# Altium schematic symbol library SMD-Symbols.SchLib: 42 symbols (part 2 of 3)
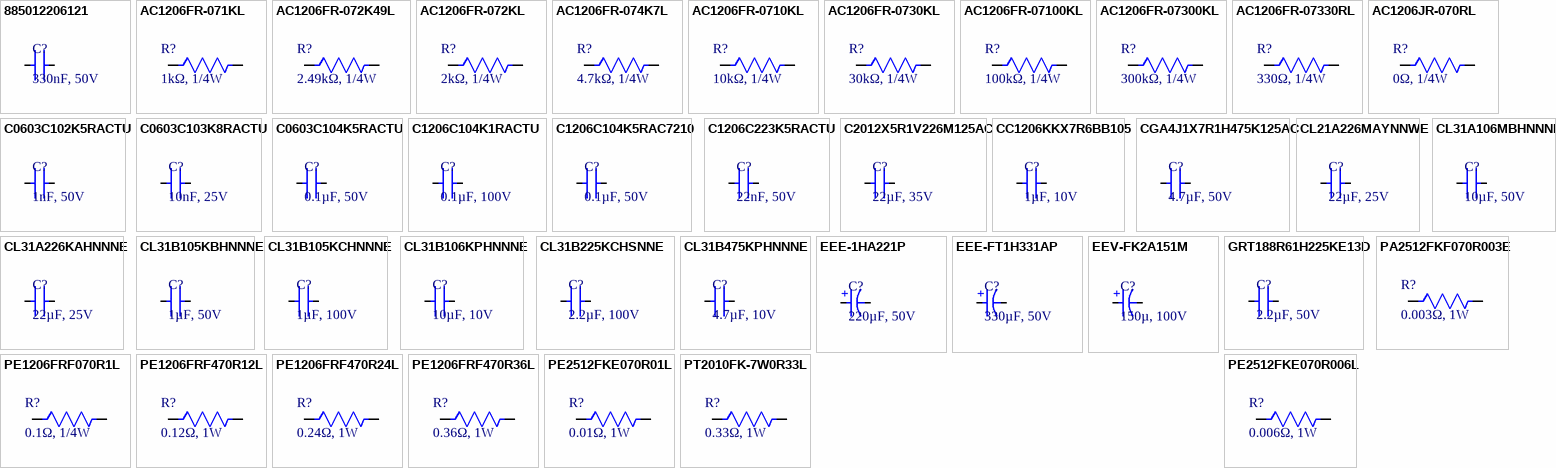
[diagram p2: symbols 885012206121 to PT2010FK-7W0R33L]

## C2012X5R1V226M125AC
designator C?, comment 22µF, 35V
CAP CER 22UF 35V X5R 0805; Manufacturer: TDK; Manufacturer Part Number: C2012X5R1V226M125AC; Manufacturer Lifecycle Status: PRODUCTION; Dielectric Material: Ceramic; Tolerance: 20%; Supplier: DigiKey; Supplier Part Number: 445-14428-1-ND; RoHS: Compliant; Category: Ceramic Capacitors; Stock: 581767; Pricing: 1=0.57, 10=0.348, 50=0.2628, 100=0.2364, 500=0.19204, 1000=0.17833 (USD); Value: 22µF; Case/Package: 0805; Case Code (Imperial): 0805; Case Code (Metric): 2012; China RoHS: Compliant; Dielectric: X5R; Height: 1.25mm; Lead Free: Lead Free; Length: 2mm; Lifecycle Status: Production; Material: Ceramic; Max Length: 2.2mm; Max Operating Temperature: 85°C; Max Width: 1.45mm; Min Length: 1.8mm; Min Operating Temperature: -55°C; Min Width: 1.05mm; Mounting Technology: Surface Mount; Number of Terminals: 2; REACH SVHC: Yes; Schedule B: 8532240020, 8532240020|8532240020|8532240020|8532240020|8532240020; Termination: SMD/SMT; Voltage Rating: 35V; Voltage Rating (DC): 35V; Weight: 5.499807mg; Width: 1.25mm; ComponentLink1URL: https://datasheet.octopart.com:443/C2012X5R1V226M125AC-TDK-datasheet-175423548.pdf?src-supplier=TME; ComponentLink1Description: https://datasheet.octopart.com:443/C2012X5R1V226M125AC-TDK-datasheet-175423548.pdf?src-supplier=TME; ComponentLink2URL: https://datasheet.octopart.com:443/C2012X5R1V226M125AC-TDK-datasheet-182135025.pdf?src-supplier=TME; ComponentLink2Description: https://datasheet.octopart.com:443/C2012X5R1V226M125AC-TDK-datasheet-182135025.pdf?src-supplier=TME; ComponentLink3URL: https://datasheet.octopart.com:443/C2012X5R1V226M125AC-TDK-datasheet-159617022.pdf?src-supplier=TME; ComponentLink3Description: https://datasheet.octopart.com:443/C2012X5R1V226M125AC-TDK-datasheet-159617022.pdf?src-supplier=TME; ComponentLink4URL: https://datasheet.octopart.com:443/C2012X5R1V226M125AC-TDK-datasheet-68298673.pdf?src-supplier=Upverter; ComponentLink4Description: https://datasheet.octopart.com:443/C2012X5R1V226M125AC-TDK-datasheet-68298673.pdf?src-supplier=Upverter; ComponentLink5URL: https://datasheet.octopart.com:443/C2012X5R1V226M125AC-TDK-datasheet-151546523.pdf?src-supplier=ODG+(Origin+Data+Global); ComponentLink5Description: https://datasheet.octopart.com:443/C2012X5R1V226M125AC-TDK-datasheet-151546523.pdf?src-supplier=ODG+(Origin+Data+Global); ComponentLink6URL: https://datasheet.octopart.com:443/C2012X5R1V226M125AC-TDK-datasheet-82475248.pdf?src-supplier=Newark; ComponentLink6Description: https://datasheet.octopart.com:443/C2012X5R1V226M125AC-TDK-datasheet-82475248.pdf?src-supplier=Newark; ComponentLink7URL: https://datasheet.octopart.com/C2012X5R1V226M125AC-TDK-datasheet-41194876.pdf; ComponentLink7Description: https://datasheet.octopart.com/C2012X5R1V226M125AC-TDK-datasheet-41194876.pdf; ComponentLink8URL: https://datasheet.octopart.com/C-Series-Ceramic-Chip-Capacitors-TDK-datasheet-family-84.pdf; ComponentLink8Description: https://datasheet.octopart.com/C-Series-Ceramic-Chip-Capacitors-TDK-datasheet-family-84.pdf; ComponentLink9URL: https://datasheet.octopart.com:443/C2012X5R1V226M125AC-TDK-datasheet-158983655.pdf?src-supplier=Farnell; ComponentLink9Description: https://datasheet.octopart.com:443/C2012X5R1V226M125AC-TDK-datasheet-158983655.pdf?src-supplier=Farnell; ComponentLink10URL: https://datasheet.octopart.com:443/C2012X5R1V226M125AC-TDK-datasheet-25352837.pdf?src-supplier=Future+Electronics; ComponentLink10Description: https://datasheet.octopart.com:443/C2012X5R1V226M125AC-TDK-datasheet-25352837.pdf?src-supplier=Future+Electronics; ComponentLink11URL: https://datasheet.octopart.com:443/C2012X5R1V226M125AC-TDK-datasheet-23766614.pdf?src-supplier=Future+Electronics; ComponentLink11Description: https://datasheet.octopart.com:443/C2012X5R1V226M125AC-TDK-datasheet-23766614.pdf?src-supplier=Future+Electronics; ComponentLink12URL: http://sigma.octopart.com:80/rohs_certificate/C-Series-Ceramic-Chip-Capacitors-TDK-family-108.pdf?src-supplier=Compliance+Statements; ComponentLink12Description: http://sigma.octopart.com:80/rohs_certificate/C-Series-Ceramic-Chip-Capacitors-TDK-family-108.pdf?src-supplier=Compliance+Statements
footprint CAP-CER-0805
pins: 1, 2

## CC1206KKX7R6BB105
designator C?, comment 1µF, 10V
CAP CER 1UF 10V X7R 1206; Manufacturer: Yageo; Manufacturer Part Number: CC1206KKX7R6BB105; Dielectric Material: Ceramic; Multilayer: Yes; Tolerance  (fill in as +-): 10%; Supplier: Digikey; Supplier Part Number: 311-1951-1-ND; RoHS: Yes; Category: Ceramic Capacitors; Stock: 19006; Pricing: 1=0.23, 10=0.151, 50=0.1064, 100=0.0858, 500=0.06378, 1000=0.05581 (USD); Mounting Technology: Surface Mount; Pins: 2; Package Shape: Rectangular; Case/Package: 1206; Terminal Finish: Nickel; Min Operating Temperature: -55°C; Max Operating Temperature: 125°C; JESD-609 Code: e3; Value: 1uF; Capacitor Type: Ceramic; Package Style: SMTMeter; Packaging: Tape and Reel; Tolerance (fill in as +-): 10%; Rated DC Voltage (URdc): 10V; Temperature Characteristics Code: X7R; Termination: Wraparound; Length: 3.2mm; Width: 1.6mm; Height: 1.15mm; Reach SVHC Compliant: Yes; RoHS Compliant: Yes; ComponentLink1URL: https://datasheet.ciiva.com:443/pdfs/VipMasterIC/IC/YAGO/YAGO-S-A0003557223/YAGO-S-A0003557223-1.pdf?src-supplier=IHS+Markit; ComponentLink1Description: https://datasheet.ciiva.com:443/pdfs/VipMasterIC/IC/YAGO/YAGO-S-A0003557223/YAGO-S-A0003557223-1.pdf?src-supplier=IHS+Markit; ComponentLink2URL: https://datasheet.ciiva.com/26863/getdatasheetpartid-408469-26863081.pdf?src-supplier=Verical; ComponentLink2Description: https://datasheet.ciiva.com/26863/getdatasheetpartid-408469-26863081.pdf?src-supplier=Verical; ComponentLink3URL: https://datasheet.ciiva.com/11466/upy-gphc-x7r-6-3v-to-50v-8-11466566.pdf?src-supplier=Avnet; ComponentLink3Description: https://datasheet.ciiva.com/11466/upy-gphc-x7r-6-3v-to-50v-8-11466566.pdf?src-supplier=Avnet
footprint CAP-CER-1206
pins: 1, 2

## CGA4J1X7R1H475K125AC
designator C?, comment 4.7µF, 50V
CAP CER 4.7UF 50V X7R 0805; Manufacturer: TDK; Manufacturer Part Number: CGA4J1X7R1H475K125AC; Supplier: Digikey; Supplier Part Number: 445-181404-1-ND; RoHS: Yes; Category: Ceramic Capacitors; Stock: 257949; Pricing: 1=0.53, 10=0.323, 100=0.2178, 1000=0.16333 (USD); ComponentLink1URL: https://datasheet.ciiva.com:443/pdfs/VipMasterIC/IC/TDKC/TDKC-S-A0008953915/TDKC-S-A0008953915-1.pdf?src-supplier=IHS+Markit; ComponentLink1Description: https://datasheet.ciiva.com:443/pdfs/VipMasterIC/IC/TDKC/TDKC-S-A0008953915/TDKC-S-A0008953915-1.pdf?src-supplier=IHS+Markit; ComponentLink2URL: https://product.tdk.com/info/en/catalog/datasheets/mlcc_automotive_general_en.pdf?src-supplier=Digikey; ComponentLink2Description: https://product.tdk.com/info/en/catalog/datasheets/mlcc_automotive_general_en.pdf?src-supplier=Digikey; ComponentLink3URL: https://product.tdk.com/info/en/catalog/datasheets/mlcc_automotive_general_en.pdf?ref_disty=digikey&src-supplier=Digikey; ComponentLink3Description: https://product.tdk.com/info/en/catalog/datasheets/mlcc_automotive_general_en.pdf?ref_disty=digikey&src-supplier=Digikey; ComponentLink4URL: https://datasheet.octopart.com/CGA4J1X7R1H475K125AC-TDK-datasheet-138890726.pdf?src-supplier=Future+Electronics; ComponentLink4Description: https://datasheet.octopart.com/CGA4J1X7R1H475K125AC-TDK-datasheet-138890726.pdf?src-supplier=Future+Electronics; ComponentLink5URL: https://datasheet.octopart.com/CGA4J1X7R1H475K125AC-TDK-datasheet-165583812.pdf?src-supplier=TME; ComponentLink5Description: https://datasheet.octopart.com/CGA4J1X7R1H475K125AC-TDK-datasheet-165583812.pdf?src-supplier=TME
footprint CAP-CER-0805
pins: 1, 2

## CL21A226MAYNNWE
designator C?, comment 22µF, 25V
CAP CER 22UF 25V X5R 0805; Manufacturer: Samsung Electro-Mechanics; Manufacturer Part Number: CL21A226MAYNNWE; Dielectric Material: Ceramic; Tolerance: 20%; Supplier: DigiKey; Supplier Part Number: 1276-CL21A226MAYNNWECT-ND; RoHS: Compliant; Category: Ceramic Capacitors; Stock: 11531; Pricing: 1=0.28, 10=0.166, 50=0.1204, 100=0.1065, 500=0.08304, 1000=0.07581 (USD); Value: 22µF; Height: 1.25mm; Length: 2mm; Lifecycle Status: Production; Max Operating Temperature: 85°C; Min Operating Temperature: -55°C; Mounting Technology: Surface Mount; Number of Terminals: 2; REACH SVHC: Yes; Voltage Rating (DC): 25V; Width: 1.25mm; ComponentLink1URL: https://datasheet.octopart.com:443/CL21A226MAYNNWE-Samsung-Electro-Mechanics-datasheet-163747747.pdf?src-supplier=Future+Electronics; ComponentLink1Description: https://datasheet.octopart.com:443/CL21A226MAYNNWE-Samsung-Electro-Mechanics-datasheet-163747747.pdf?src-supplier=Future+Electronics
footprint CAP-CER-0805
pins: 1, 2

## CL31A106MBHNNNE
designator C?, comment 10µF, 50V
CAP CER 10UF 50V X5R 1206; Manufacturer: Samsung; Manufacturer Part Number: CL31A106MBHNNNE; Dielectric Material: Ceramic; Multilayer: Yes; Tolerance  (fill in as +-): 20%; Supplier: Digikey; Supplier Part Number: 1276-6736-1-ND; RoHS: Yes; Category: Ceramic Capacitors; Mounting Technology: Surface Mount; Pins: 2; Package Shape: Rectangular; Case/Package: 1206; Terminal Finish: Nickel; Min Operating Temperature: -55°C; Max Operating Temperature: 85°C; JESD-609 Code: e3; Value: 10uF; Capacitor Type: Ceramic; Packaging: Tape and Reel; Tolerance (fill in as +-): 20%; Rated DC Voltage (URdc): 50V; Temperature Characteristics Code: X5R; Termination: Wraparound; Reach SVHC Compliant: Yes; RoHS Compliant: Yes; ComponentLink1URL: https://datasheet.ciiva.com:443/pdfs/VipMasterIC/IC/SEMS/SEMS-S-A0008524842/SEMS-S-A0008524608-1.pdf?src-supplier=IHS+Markit; ComponentLink1Description: https://datasheet.ciiva.com:443/pdfs/VipMasterIC/IC/SEMS/SEMS-S-A0008524842/SEMS-S-A0008524608-1.pdf?src-supplier=IHS+Markit; ComponentLink2URL: http://www.samsungsem.com/kr/support/product-search/mlcc/CL31A106MBHNNNE.jsp?src-supplier=Digikey; ComponentLink2Description: http://www.samsungsem.com/kr/support/product-search/mlcc/CL31A106MBHNNNE.jsp?src-supplier=Digikey; ComponentLink3URL: https://datasheet.octopart.com/CL31A106MBHNNNE-Samsung-Electro-Mechanics-datasheet-149066821.pdf?src-supplier=Future+Electronics; ComponentLink3Description: https://datasheet.octopart.com/CL31A106MBHNNNE-Samsung-Electro-Mechanics-datasheet-149066821.pdf?src-supplier=Future+Electronics
footprint CAP-CER-1206
pins: 1, 2

## CL31A226KAHNNNE
designator C?, comment 22µF, 25V
CAP CER 22UF 25V X5R 1206; Manufacturer: Samsung; Manufacturer Part Number: CL31A226KAHNNNE; Dielectric Material: Ceramic; Multilayer: Yes; Tolerance  (fill in as +-): 10%; Supplier: Digikey; Supplier Part Number: 1276-3047-1-ND; RoHS: Yes; Category: Ceramic Capacitors; Stock: 1049305; Pricing: 1=0.23, 10=0.093, 50=0.08, 100=0.0672, 500=0.0644, 1000=0.06218 (USD); Mounting Technology: Surface Mount; Pins: 2; Package Shape: Rectangular; Case/Package: 1206; Terminal Finish: Nickel; Min Operating Temperature: -55°C; Max Operating Temperature: 85°C; JESD-609 Code: e3; Value: 22uF; Capacitor Type: Ceramic; Package Style: SMTMeter; Packaging: Tape and Reel; Tolerance (fill in as +-): 10%; Rated DC Voltage (URdc): 25V; Temperature Characteristics Code: X5R; Termination: Wraparound; Length: 3.2mm; Width: 1.6mm; Height: 1.8mm; Reach SVHC Compliant: Yes; RoHS Compliant: Yes; ComponentLink1URL: https://datasheet.ciiva.com:443/pdfs/VipMasterIC/IC/SEMS/SEMS-S-A0008384515/SEMS-S-A0008873224-1.pdf?src-supplier=IHS+Markit; ComponentLink1Description: https://datasheet.ciiva.com:443/pdfs/VipMasterIC/IC/SEMS/SEMS-S-A0008384515/SEMS-S-A0008873224-1.pdf?src-supplier=IHS+Markit; ComponentLink2URL: https://datasheet.ciiva.com/25766/cl31a226kahnnne-25766608.pdf?src-supplier=Digikey; ComponentLink2Description: https://datasheet.ciiva.com/25766/cl31a226kahnnne-25766608.pdf?src-supplier=Digikey; ComponentLink3URL: https://datasheet.ciiva.com/16437/cl31a226kahnnne-16437213.pdf?src-supplier=Future+Electronics; ComponentLink3Description: https://datasheet.ciiva.com/16437/cl31a226kahnnne-16437213.pdf?src-supplier=Future+Electronics; ComponentLink4URL: https://datasheet.ciiva.com/26838/getdatasheetpartid-359658-26838860.pdf?src-supplier=Verical; ComponentLink4Description: https://datasheet.ciiva.com/26838/getdatasheetpartid-359658-26838860.pdf?src-supplier=Verical; ComponentLink5URL: https://datasheet.ciiva.com/29201/452249-da-01-en-vs-kondensator-1206-29201336.pdf?src-supplier=Conrad; ComponentLink5Description: https://datasheet.ciiva.com/29201/452249-da-01-en-vs-kondensator-1206-29201336.pdf?src-supplier=Conrad
footprint CAP-CER-1206
pins: 1, 2

## CL31B105KBHNNNE
designator C?, comment 1µF, 50V
CAP CER 1UF 50V X7R 1206; Manufacturer: Samsung; Manufacturer Part Number: CL31B105KBHNNNE; Dielectric Material: Ceramic; Multilayer: Yes; Tolerance  (fill in as +-): 10%; Supplier: Digikey; Supplier Part Number: 1276-1068-1-ND; RoHS: Yes; Category: Ceramic Capacitors; Stock: 87983; Pricing: 1=0.13, 10=0.074, 100=0.045, 1000=0.03005 (USD); Mounting Technology: Surface Mount; Pins: 2; Package Shape: Rectangular; Case/Package: 1206; Terminal Finish: Nickel; Min Operating Temperature: -55°C; Max Operating Temperature: 125°C; JESD-609 Code: e3; Value: 1uF; Capacitor Type: Ceramic; Package Style: SMTMeter; Packaging: Tape and Reel; Tolerance (fill in as +-): 10%; Rated DC Voltage (URdc): 50V; Temperature Characteristics Code: X7R; Termination: Wraparound; Length: 3.2mm; Width: 1.6mm; Height: 1.8mm; Reach SVHC Compliant: Yes; RoHS Compliant: Yes; ComponentLink1URL: https://datasheet.ciiva.com:443/pdfs/VipMasterIC/IC/SEMS/SEMS-S-A0008526420/SEMS-S-A0008525247-1.pdf?src-supplier=IHS+Markit; ComponentLink1Description: https://datasheet.ciiva.com:443/pdfs/VipMasterIC/IC/SEMS/SEMS-S-A0008526420/SEMS-S-A0008525247-1.pdf?src-supplier=IHS+Markit; ComponentLink2URL: https://datasheet.ciiva.com/25729/cl31b105kbhnnne-25729445.pdf?src-supplier=Digikey; ComponentLink2Description: https://datasheet.ciiva.com/25729/cl31b105kbhnnne-25729445.pdf?src-supplier=Digikey; ComponentLink3URL: https://datasheet.ciiva.com/16330/cl31b105kbhnnne-16330112.pdf?src-supplier=Future+Electronics; ComponentLink3Description: https://datasheet.ciiva.com/16330/cl31b105kbhnnne-16330112.pdf?src-supplier=Future+Electronics
footprint CAP-CER-1206
pins: 1, 2

## CL31B105KCHNNNE
designator C?, comment 1µF, 100V
CAP CER 1UF 100V X7R 1206; Manufacturer: Samsung; Manufacturer Part Number: CL31B105KCHNNNE; Dielectric Material: Ceramic; Multilayer: Yes; Tolerance  (fill in as +-): 10%; Supplier: Digikey; Supplier Part Number: 1276-1838-1-ND; RoHS: Yes; Category: Ceramic Capacitors; Stock: 385884; Pricing: 1=0.16, 10=0.091, 50=0.0634, 100=0.055, 500=0.04066, 1000=0.03621 (USD); Mounting Technology: Surface Mount; Pins: 2; Package Shape: Rectangular; Case/Package: 1206; Terminal Finish: Nickel; Min Operating Temperature: -55°C; Max Operating Temperature: 125°C; JESD-609 Code: e3; Value: 1uF; Capacitor Type: Ceramic; Package Style: SMTMeter; Packaging: Tape and Reel; Tolerance (fill in as +-): 10%; Rated DC Voltage (URdc): 100V; Temperature Characteristics Code: X7R; Termination: Wraparound; Length: 3.2mm; Width: 1.6mm; Height: 1.6mm; Reach SVHC Compliant: Yes; RoHS Compliant: Yes; ComponentLink1URL: https://datasheet.ciiva.com:443/pdfs/VipMasterIC/IC/SEMS/SEMS-S-A0008524868/SEMS-S-A0008525032-1.pdf?src-supplier=IHS+Markit; ComponentLink1Description: https://datasheet.ciiva.com:443/pdfs/VipMasterIC/IC/SEMS/SEMS-S-A0008524868/SEMS-S-A0008525032-1.pdf?src-supplier=IHS+Markit; ComponentLink2URL: https://datasheet.ciiva.com/25711/cl31b105kchnnne-25711248.pdf?src-supplier=Digikey; ComponentLink2Description: https://datasheet.ciiva.com/25711/cl31b105kchnnne-25711248.pdf?src-supplier=Digikey; ComponentLink3URL: https://datasheet.ciiva.com/16437/clseries-16437207.pdf?src-supplier=Future+Electronics; ComponentLink3Description: https://datasheet.ciiva.com/16437/clseries-16437207.pdf?src-supplier=Future+Electronics
footprint CAP-CER-1206
pins: 1, 2

## CL31B106KPHNNNE
designator C?, comment 10µF, 10V
CAP CER 10UF 10V X7R 1206; Manufacturer: Samsung; Manufacturer Part Number: CL31B106KPHNNNE; Dielectric Material: Ceramic; Multilayer: Yes; Tolerance  (fill in as +-): 10%; Supplier: Digikey; Supplier Part Number: 1276-1311-1-ND; RoHS: Yes; Category: Ceramic Capacitors; Stock: 204329; Pricing: 1=0.22, 10=0.126, 50=0.0888, 100=0.0773, 500=0.05798, 1000=0.05196 (USD); Mounting Technology: Surface Mount; Pins: 2; Package Shape: Rectangular; Case/Package: 1206; Terminal Finish: Nickel; Min Operating Temperature: -55°C; Max Operating Temperature: 125°C; JESD-609 Code: e3; Value: 10uF; Capacitor Type: Ceramic; Package Style: SMTMeter; Packaging: Tape and Reel; Tolerance (fill in as +-): 10%; Rated DC Voltage (URdc): 10V; Temperature Characteristics Code: X7R; Termination: Wraparound; Length: 3.2mm; Width: 1.6mm; Height: 1.8mm; Reach SVHC Compliant: Yes; RoHS Compliant: Yes; ComponentLink1URL: https://datasheet.ciiva.com:443/pdfs/VipMasterIC/IC/SEMS/SEMS-S-A0008524842/SEMS-S-A0008524858-1.pdf?src-supplier=IHS+Markit; ComponentLink1Description: https://datasheet.ciiva.com:443/pdfs/VipMasterIC/IC/SEMS/SEMS-S-A0008524842/SEMS-S-A0008524858-1.pdf?src-supplier=IHS+Markit; ComponentLink2URL: https://datasheet.ciiva.com/25795/cl31b106kphnnne-25795251.pdf?src-supplier=Digikey; ComponentLink2Description: https://datasheet.ciiva.com/25795/cl31b106kphnnne-25795251.pdf?src-supplier=Digikey; ComponentLink3URL: https://datasheet.ciiva.com/26946/getdatasheetpartid-359660-26946996.pdf?src-supplier=Verical; ComponentLink3Description: https://datasheet.ciiva.com/26946/getdatasheetpartid-359660-26946996.pdf?src-supplier=Verical
footprint CAP-CER-1206
pins: 1, 2

## CL31B225KCHSNNE
designator C?, comment 2.2µF, 100V
CAP CER 2.2UF 100V X7R 1206; Manufacturer: Samsung; Manufacturer Part Number: CL31B225KCHSNNE; Dielectric Material: Ceramic; Multilayer: Yes; Tolerance  (fill in as +-): 10%; Supplier: Digikey; Supplier Part Number: 1276-3138-1-ND; RoHS: Yes; Category: Ceramic Capacitors; Stock: 134523; Pricing: 1=0.48, 10=0.287, 50=0.2088, 100=0.1845, 500=0.14336, 1000=0.1305 (USD); Mounting Technology: Surface Mount; Pins: 2; Package Shape: Rectangular; Case/Package: 1206; Terminal Finish: Nickel; Min Operating Temperature: -55°C; Max Operating Temperature: 125°C; JESD-609 Code: e3; Value: 2.2uF; Capacitor Type: Ceramic; Packaging: Tape and Reel; Tolerance (fill in as +-): 10%; Rated DC Voltage (URdc): 100V; Temperature Characteristics Code: X7R; Termination: Wraparound; Reach SVHC Compliant: Yes; RoHS Compliant: Yes; ComponentLink1URL: https://datasheet.ciiva.com:443/pdfs/VipMasterIC/IC/SEMS/SEMS-S-A0008525088/SEMS-S-A0008525193-1.pdf?src-supplier=IHS+Markit; ComponentLink1Description: https://datasheet.ciiva.com:443/pdfs/VipMasterIC/IC/SEMS/SEMS-S-A0008525088/SEMS-S-A0008525193-1.pdf?src-supplier=IHS+Markit; ComponentLink2URL: https://datasheet.ciiva.com/25711/cl31b225kchsnne-25711499.pdf?src-supplier=Digikey; ComponentLink2Description: https://datasheet.ciiva.com/25711/cl31b225kchsnne-25711499.pdf?src-supplier=Digikey; ComponentLink3URL: https://datasheet.ciiva.com/29200/453036-da-01-en-vs-kondensator-1206-29200657.pdf?src-supplier=Conrad; ComponentLink3Description: https://datasheet.ciiva.com/29200/453036-da-01-en-vs-kondensator-1206-29200657.pdf?src-supplier=Conrad
footprint CAP-CER-1206
pins: 1, 2

## CL31B475KPHNNNE
designator C?, comment 4.7µF, 10V
CAP CER 4.7UF 10V X7R 1206; Manufacturer: Samsung; Manufacturer Part Number: CL31B475KPHNNNE; Dielectric Material: Ceramic; Multilayer: Yes; Tolerance  (fill in as +-): 10%; Supplier: Digikey; Supplier Part Number: 1276-1133-1-ND; RoHS: Yes; Category: Ceramic Capacitors; Stock: 154674; Pricing: 1=0.19, 10=0.107, 50=0.0754, 100=0.0655, 500=0.04882, 1000=0.04361 (USD); Mounting Technology: Surface Mount; Pins: 2; Package Shape: Rectangular; Case/Package: 1206; Terminal Finish: Nickel; Min Operating Temperature: -55°C; Max Operating Temperature: 125°C; JESD-609 Code: e3; Value: 4.7uF; Capacitor Type: Ceramic; Package Style: SMTMeter; Packaging: Tape and Reel; Tolerance (fill in as +-): 10%; Rated DC Voltage (URdc): 10V; Temperature Characteristics Code: X7R; Termination: Wraparound; Length: 3.2mm; Width: 1.6mm; Height: 1.8mm; Reach SVHC Compliant: Yes; RoHS Compliant: Yes; ComponentLink1URL: https://datasheet.ciiva.com:443/pdfs/VipMasterIC/IC/SEMS/SEMS-S-A0008522756/SEMS-S-A0008522702-1.pdf?src-supplier=IHS+Markit; ComponentLink1Description: https://datasheet.ciiva.com:443/pdfs/VipMasterIC/IC/SEMS/SEMS-S-A0008522756/SEMS-S-A0008522702-1.pdf?src-supplier=IHS+Markit; ComponentLink2URL: https://datasheet.ciiva.com/25795/cl31b475kphnnne-25795716.pdf?src-supplier=Digikey; ComponentLink2Description: https://datasheet.ciiva.com/25795/cl31b475kphnnne-25795716.pdf?src-supplier=Digikey; ComponentLink3URL: https://datasheet.ciiva.com/15196/getdatasheetpartid-355347-15196065.pdf?src-supplier=Verical; ComponentLink3Description: https://datasheet.ciiva.com/15196/getdatasheetpartid-355347-15196065.pdf?src-supplier=Verical; ComponentLink4URL: https://datasheet.ciiva.com/29200/452823-da-01-en-vs-kondensator-1206-29200920.pdf?src-supplier=Conrad; ComponentLink4Description: https://datasheet.ciiva.com/29200/452823-da-01-en-vs-kondensator-1206-29200920.pdf?src-supplier=Conrad
footprint CAP-CER-1206
pins: 1, 2

## EEE-1HA221P
designator C?, comment 220µF, 50V
CAP ALUM 220UF 20% 50V SMD; Manufacturer: Panasonic; Manufacturer Part Number: EEE-1HA221P; Dielectric Material: Aluminium; Polarity: Polarized; Leakage Current: 110uA; Ripple Current: 300mA; Tan Delta: 0.12; Supplier: Digikey; Supplier Part Number: PCE3921CT-ND; RoHS: Yes; Category: Aluminum Electrolytic Capacitors; Stock: 52354; Pricing: 1=0.84, 10=0.51, 50=0.3792, 100=0.3385 (USD); Mounting Technology: Surface Mount; Pins: 2; Package Shape: Cylindrical; Case/Package: 4141; Min Operating Temperature: -40°C; Max Operating Temperature: 85°C; Value: 220uF; Capacitor Type: Aluminium; Tolerance  (fill in as +-): 20%; Package Style: SMTMeter; Packaging: Tape and Reel; Tolerance (fill in as +-): 20%; Rated DC Voltage (URdc): 50V; Termination: Flat; Length: 12mm; Width: 10.3mm; Height: 10.2mm; Reach SVHC Compliant: Yes; RoHS Compliant: Yes; ComponentLink1URL: https://datasheet.ciiva.com:443/pdfs/VipMasterIC/IC/PANA/PANA-S-A0009615203/PANA-S-A0009615203-1.pdf?src-supplier=IHS+Markit; ComponentLink1Description: https://datasheet.ciiva.com:443/pdfs/VipMasterIC/IC/PANA/PANA-S-A0009615203/PANA-S-A0009615203-1.pdf?src-supplier=IHS+Markit; ComponentLink2URL: https://datasheet.ciiva.com/46374/aba0000ce2-46374381.pdf?src-supplier=Element14; ComponentLink2Description: https://datasheet.ciiva.com/46374/aba0000ce2-46374381.pdf?src-supplier=Element14; ComponentLink3URL: https://datasheet.ciiva.com/46378/aba0000ce2-46378282.pdf?src-supplier=Element14; ComponentLink3Description: https://datasheet.ciiva.com/46378/aba0000ce2-46378282.pdf?src-supplier=Element14; ComponentLink4URL: https://datasheet.ciiva.com/14603/70255710-14603436.pdf?src-supplier=Allied+Electronics; ComponentLink4Description: https://datasheet.ciiva.com/14603/70255710-14603436.pdf?src-supplier=Allied+Electronics; ComponentLink5URL: https://datasheet.ciiva.com/43470/aba0000ce2-43470670.pdf?src-supplier=Farnell; ComponentLink5Description: https://datasheet.ciiva.com/43470/aba0000ce2-43470670.pdf?src-supplier=Farnell; ComponentLink6URL: https://datasheet.ciiva.com/11680/aba0000ce2-11680010.pdf?src-supplier=Avnet; ComponentLink6Description: https://datasheet.ciiva.com/11680/aba0000ce2-11680010.pdf?src-supplier=Avnet; ComponentLink7URL: https://datasheet.ciiva.com/16202/aba0000ce2-16202763.pdf?src-supplier=Future+Electronics; ComponentLink7Description: https://datasheet.ciiva.com/16202/aba0000ce2-16202763.pdf?src-supplier=Future+Electronics
footprint CAP-ALUM-220UF-50V
pins: 1, 2
text: +

## EEE-FT1H331AP
designator C?, comment 330µF, 50V
CAP ALUM 330UF 20% 50V SMD; Manufacturer: Panasonic; Manufacturer Part Number: EEE-FT1H331AP; Dielectric Material: Aluminium; Polarity: Polarized; ESR (Equivalent Series Resistance): 120mR; Leakage Current: 165uA; Ripple Current: 585mA; Tan Delta: 0.1; Reference Standard: AEC-Q200; Supplier: Digikey; Supplier Part Number: PCE5026CT-ND; RoHS: Yes; Category: Aluminum Electrolytic Capacitors; Stock: 21678; Pricing: 1=1.44, 10=0.904, 50=0.6886, 100=0.6216, 500=0.50824, 1000=0.47228, 1500=0.45418, 2500=0.43404, 3500=0.42223, 5000=0.41083, 12500=0.38614, 25000=0.37114 (USD); Mounting Technology: Surface Mount; Pins: 2; Case/Package: 4141; Min Operating Temperature: -55°C; Max Operating Temperature: 105°C; Value: 330uF; Capacitor Type: Aluminium; Tolerance  (fill in as +-): 20%; Package Style: SMTMeter; Packaging: Tape and Reel; Tolerance (fill in as +-): 20%; Rated DC Voltage (URdc): 50V; Termination: Flat; Diameter: 10mm; Length: 10.2mm; Reach SVHC Compliant: Yes; RoHS Compliant: Yes; ComponentLink1URL: https://datasheet.ciiva.com:443/pdfs/VipMasterIC/IC/PANA/PANA-S-A0009615199/PANA-S-A0009615199-1.pdf?src-supplier=IHS+Markit; ComponentLink1Description: https://datasheet.ciiva.com:443/pdfs/VipMasterIC/IC/PANA/PANA-S-A0009615199/PANA-S-A0009615199-1.pdf?src-supplier=IHS+Markit; ComponentLink2URL: https://datasheet.ciiva.com/23869/1244238-23869248.pdf?src-supplier=Newark; ComponentLink2Description: https://datasheet.ciiva.com/23869/1244238-23869248.pdf?src-supplier=Newark; ComponentLink3URL: https://datasheet.ciiva.com/11781/0900766b80f4973e-11781037.pdf?src-supplier=Rs; ComponentLink3Description: https://datasheet.ciiva.com/11781/0900766b80f4973e-11781037.pdf?src-supplier=Rs; ComponentLink4URL: https://datasheet.ciiva.com/6019/1790597-6019431.pdf?src-supplier=Farnell; ComponentLink4Description: https://datasheet.ciiva.com/6019/1790597-6019431.pdf?src-supplier=Farnell; ComponentLink5URL: https://datasheet.ciiva.com/10331/aba0000ce135-10331094.pdf?src-supplier=Avnet; ComponentLink5Description: https://datasheet.ciiva.com/10331/aba0000ce135-10331094.pdf?src-supplier=Avnet; ComponentLink6URL: https://datasheet.ciiva.com/2985/aba0000ce135-2985591.pdf?src-supplier=Avnet; ComponentLink6Description: https://datasheet.ciiva.com/2985/aba0000ce135-2985591.pdf?src-supplier=Avnet; ComponentLink7URL: https://datasheet.ciiva.com/28691/1244238-28691162.pdf?src-supplier=Element14; ComponentLink7Description: https://datasheet.ciiva.com/28691/1244238-28691162.pdf?src-supplier=Element14; ComponentLink8URL: https://datasheet.ciiva.com/28691/1244238-28691165.pdf?src-supplier=Element14; ComponentLink8Description: https://datasheet.ciiva.com/28691/1244238-28691165.pdf?src-supplier=Element14; ComponentLink9URL: https://datasheet.ciiva.com/46376/1790597-46376765.pdf?src-supplier=Element14; ComponentLink9Description: https://datasheet.ciiva.com/46376/1790597-46376765.pdf?src-supplier=Element14; ComponentLink10URL: https://datasheet.ciiva.com/46385/1790597-46385770.pdf?src-supplier=Element14; ComponentLink10Description: https://datasheet.ciiva.com/46385/1790597-46385770.pdf?src-supplier=Element14; ComponentLink11URL: https://datasheet.ciiva.com/14604/70243693-14604234.pdf?src-supplier=Allied+Electronics; ComponentLink11Description: https://datasheet.ciiva.com/14604/70243693-14604234.pdf?src-supplier=Allied+Electronics; ComponentLink12URL: https://datasheet.ciiva.com/16367/aba0000ce135-16367787.pdf?src-supplier=Future+Electronics; ComponentLink12Description: https://datasheet.ciiva.com/16367/aba0000ce135-16367787.pdf?src-supplier=Future+Electronics
footprint CAP-ALUM-330UF-50V
pins: 1, 2
text: +

## EEV-FK2A151M
designator C?, comment 150µ, 100V
CAP ALUM 150UF 20% 100V SMD; Manufacturer: Panasonic; Manufacturer Part Number: EEV-FK2A151M; Dielectric Material: Aluminium; Polarity: Polarized; Leakage Current: 150uA; Ripple Current: 594.75mA; Tan Delta: 0.07; Reference Standard: AEC-Q200; Supplier: Digikey; Supplier Part Number: PCE3499CT-ND; RoHS: Yes; Category: Aluminum Electrolytic Capacitors; Stock: 731; Pricing: 1=2.45, 10=1.587, 50=1.2372 (USD); Mounting Technology: Surface Mount; Pins: 2; Case/Package: 6767; Min Operating Temperature: -55°C; Max Operating Temperature: 105°C; Value: 150uF; Capacitor Type: Aluminium; Tolerance  (fill in as +-): 20%; Package Style: SMTMeter; Packaging: Tape and Reel; Tolerance (fill in as +-): 20%; Rated DC Voltage (URdc): 100V; Termination: Flat; Length: 19mm; Width: 17mm; Height: 16.5mm; Reach SVHC Compliant: Yes; RoHS Compliant: Yes; ComponentLink1URL: https://datasheet.ciiva.com:443/pdfs/VipMasterIC/IC/PANA/PANA-S-A0009782343/PANA-S-A0009782343-1.pdf?src-supplier=IHS+Markit; ComponentLink1Description: https://datasheet.ciiva.com:443/pdfs/VipMasterIC/IC/PANA/PANA-S-A0009782343/PANA-S-A0009782343-1.pdf?src-supplier=IHS+Markit; ComponentLink2URL: https://datasheet.ciiva.com/11778/0900766b806bc526-11778781.pdf?src-supplier=Rs; ComponentLink2Description: https://datasheet.ciiva.com/11778/0900766b806bc526-11778781.pdf?src-supplier=Rs; ComponentLink3URL: https://datasheet.ciiva.com/43485/1676921-43485535.pdf?src-supplier=Farnell; ComponentLink3Description: https://datasheet.ciiva.com/43485/1676921-43485535.pdf?src-supplier=Farnell; ComponentLink4URL: https://datasheet.ciiva.com/14596/70258115-14596487.pdf?src-supplier=Allied+Electronics; ComponentLink4Description: https://datasheet.ciiva.com/14596/70258115-14596487.pdf?src-supplier=Allied+Electronics; ComponentLink5URL: https://datasheet.ciiva.com/14597/70258115-14597685.pdf?src-supplier=Allied+Electronics; ComponentLink5Description: https://datasheet.ciiva.com/14597/70258115-14597685.pdf?src-supplier=Allied+Electronics; ComponentLink6URL: https://datasheet.ciiva.com/11679/aba0000ce120-11679340.pdf?src-supplier=Avnet; ComponentLink6Description: https://datasheet.ciiva.com/11679/aba0000ce120-11679340.pdf?src-supplier=Avnet; ComponentLink7URL: https://datasheet.ciiva.com/11679/aba0000ce120-11679342.pdf?src-supplier=Avnet; ComponentLink7Description: https://datasheet.ciiva.com/11679/aba0000ce120-11679342.pdf?src-supplier=Avnet
footprint CAP-ALUM-150UF-100V
pins: 1, 2
text: +

## GRT188R61H225KE13D
designator C?, comment 2.2µF, 50V
CAP CER 2.2UF 50V X5R 0603; Manufacturer: Murata; Manufacturer Part Number: GRT188R61H225KE13D; Manufacturer Lifecycle Status: IN PRODUCTION; Dielectric Material: Ceramic; Tolerance: 10%; Supplier: DigiKey; Supplier Part Number: 490-12332-1-ND; RoHS: Compliant; Category: Ceramic Capacitors; Stock: 139964; Pricing: 1=0.16, 10=0.093, 50=0.0656, 100=0.0573, 500=0.04326, 1000=0.03895 (USD); Value: 2.2µF; Case/Package: 0603; Case Code (Imperial): 0603; Case Code (Metric): 1608; Dielectric: X5R; Height: 800µm; Length: 1.6mm; Lifecycle Status: Production; Material: Ceramic; Max Operating Temperature: 85°C; Min Operating Temperature: -55°C; Mounting Technology: Surface Mount; Number of Terminals: 2; Packaging: Cut Tape; Ratings: AEC-Q200; REACH SVHC: Yes; Schedule B: 8532240020, 8532240020|8532240020, 8532240020|8532240020|8532240020, 8532240020|8532240020|8532240020|8532240020; Voltage Rating: 50V; Voltage Rating (DC): 50V; Width: 800µm; ComponentLink1URL: https://datasheet.octopart.com:443/GRT188R61H225KE13D-Murata-datasheet-67697752.pdf?src-supplier=element14+APAC; ComponentLink1Description: https://datasheet.octopart.com:443/GRT188R61H225KE13D-Murata-datasheet-67697752.pdf?src-supplier=element14+APAC; ComponentLink2URL: https://datasheet.octopart.com:443/GRT188R61H225KE13D-Murata-datasheet-149523597.pdf?src-supplier=Farnell; ComponentLink2Description: https://datasheet.octopart.com:443/GRT188R61H225KE13D-Murata-datasheet-149523597.pdf?src-supplier=Farnell; ComponentLink3URL: https://datasheet.octopart.com:443/GRT188R61H225KE13D-Murata-datasheet-141284651.pdf?src-supplier=Geoflip; ComponentLink3Description: https://datasheet.octopart.com:443/GRT188R61H225KE13D-Murata-datasheet-141284651.pdf?src-supplier=Geoflip; ComponentLink4URL: https://datasheet.octopart.com:443/GRT188R61H225KE13D-Murata-datasheet-165579666.pdf?src-supplier=TME; ComponentLink4Description: https://datasheet.octopart.com:443/GRT188R61H225KE13D-Murata-datasheet-165579666.pdf?src-supplier=TME; ComponentLink5URL: https://datasheet.octopart.com:443/GRT188R61H225KE13D-Murata-datasheet-140711329.pdf?src-supplier=Ciiva; ComponentLink5Description: https://datasheet.octopart.com:443/GRT188R61H225KE13D-Murata-datasheet-140711329.pdf?src-supplier=Ciiva; ComponentLink6URL: https://datasheet.octopart.com:443/GRT188R61H225KE13D-Murata-datasheet-138749129.pdf?src-supplier=Ciiva; ComponentLink6Description: https://datasheet.octopart.com:443/GRT188R61H225KE13D-Murata-datasheet-138749129.pdf?src-supplier=Ciiva; ComponentLink7URL: http://sigma.octopart.com:80/reach_statement/Murata-company-16.pdf?src-supplier=Compliance+Statements; ComponentLink7Description: http://sigma.octopart.com:80/reach_statement/Murata-company-16.pdf?src-supplier=Compliance+Statements
footprint CAP-CER-0603
pins: 1, 2

## PA2512FKF070R003E
designator R?, comment 0.003Ω, 1W
RES SMD 0.003 OHM 1% 1W 2512; Manufacturer: Yageo; Manufacturer Part Number: PA2512FKF070R003E; Rated Temperature: 70°C; Value: 3mR; Temperature Coefficient (ppm/Cel): 100; Package Height: 0.63mm; Package Length: 6.35mm; Package Width: 3.18mm; Reference Standard: AEC-Q200; Supplier: Digikey; Supplier Part Number: YAG2138CT-ND; RoHS: Yes; Category: Chip SMD Resistors; Stock: 25701; Pricing: 1=0.59, 10=0.311, 25=0.2672, 50=0.2234, 100=0.2025, 250=0.18156, 500=0.14382 (USD); Mounting Technology: Surface Mount; Pins: 2; Package Shape: Rectangular; Case/Package: 2512; Terminal Finish: Nickel; Min Operating Temperature: -55°C; Max Operating Temperature: 170°C; Tolerance: 1%; JESD-609 Code: e3; Resistor Type: FIXED RESISTOR; Construction: Chip; Packaging: Tape and Reel; Power: 1W; Technology: METAL ALLOY; Termination: Wraparound; Reach SVHC Compliant: Yes; RoHS Compliant: Yes; ComponentLink1URL: https://datasheet.ciiva.com:443/pdfs/VipMasterIC/IC/YAGO/YAGO-S-A0002829713/YAGO-S-A0002829713-1.pdf?src-supplier=IHS+Markit; ComponentLink1Description: https://datasheet.ciiva.com:443/pdfs/VipMasterIC/IC/YAGO/YAGO-S-A0002829713/YAGO-S-A0002829713-1.pdf?src-supplier=IHS+Markit; ComponentLink2URL: http://www.mouser.com/ds/2/447/PYu-PA_E_51_RoHS_5-1077983.pdf?src-supplier=Mouser; ComponentLink2Description: http://www.mouser.com/ds/2/447/PYu-PA_E_51_RoHS_5-1077983.pdf?src-supplier=Mouser; ComponentLink3URL: https://datasheet.octopart.com/PA2512FKF070R003E-Yageo-datasheet-137700559.pdf?src-supplier=Farnell; ComponentLink3Description: https://datasheet.octopart.com/PA2512FKF070R003E-Yageo-datasheet-137700559.pdf?src-supplier=Farnell; ComponentLink4URL: http://www.yageo.com/documents/recent/PYu-PA_E_51_RoHS_10.pdf?src-supplier=Digikey; ComponentLink4Description: http://www.yageo.com/documents/recent/PYu-PA_E_51_RoHS_10.pdf?src-supplier=Digikey; ComponentLink5URL: http://www.yageo.com/documents/recent/PYu-PA_E_51_RoHS_6.pdf?src-supplier=Digikey; ComponentLink5Description: http://www.yageo.com/documents/recent/PYu-PA_E_51_RoHS_6.pdf?src-supplier=Digikey; ComponentLink6URL: https://datasheet.octopart.com/PA2512FKF070R003E-Yageo-datasheet-137700559.pdf?src-supplier=Newark; ComponentLink6Description: https://datasheet.octopart.com/PA2512FKF070R003E-Yageo-datasheet-137700559.pdf?src-supplier=Newark; ComponentLink7URL: https://datasheet.octopart.com/PA2512FKF070R003E-Yageo-datasheet-102263284.pdf?src-supplier=Future+Electronics; ComponentLink7Description: https://datasheet.octopart.com/PA2512FKF070R003E-Yageo-datasheet-102263284.pdf?src-supplier=Future+Electronics
footprint RES-2512-GEN
pins: 1, 2

## PE1206FRF070R1L
designator R?, comment 0.1Ω, 1/4W
RES SMD 0.1 OHM 1% 1/4W 1206; Manufacturer: Yageo; Manufacturer Part Number: PE1206FRF070R1L; Supplier: Digikey; Supplier Part Number: 13-PE1206FRF070R1LCT-ND; RoHS: Yes; Category: Chip SMD Resistors; Stock: 3592; Pricing: 1=0.64, 10=0.279, 25=0.2152, 50=0.151, 100=0.1331, 250=0.11528 (USD); ComponentLink1URL: https://datasheet.ciiva.com:443/pdfs/VipMasterIC/IC/YAGO/YAGO-S-A0007879655/YAGO-S-A0007879655-1.pdf?src-supplier=IHS+Markit; ComponentLink1Description: https://datasheet.ciiva.com:443/pdfs/VipMasterIC/IC/YAGO/YAGO-S-A0007879655/YAGO-S-A0007879655-1.pdf?src-supplier=IHS+Markit; ComponentLink2URL: http://www.mouser.com/ds/2/447/PYu-PE_521_RoHS_L_5-1077989.pdf?src-supplier=Mouser; ComponentLink2Description: http://www.mouser.com/ds/2/447/PYu-PE_521_RoHS_L_5-1077989.pdf?src-supplier=Mouser; ComponentLink3URL: http://www.yageo.com/documents/recent/PYu-PE_521_RoHS_L_5.pdf?src-supplier=Digikey; ComponentLink3Description: http://www.yageo.com/documents/recent/PYu-PE_521_RoHS_L_5.pdf?src-supplier=Digikey; ComponentLink4URL: https://datasheet.octopart.com/PE1206FRF070R1L-Yageo-datasheet-152583588.pdf?src-supplier=Future+Electronics; ComponentLink4Description: https://datasheet.octopart.com/PE1206FRF070R1L-Yageo-datasheet-152583588.pdf?src-supplier=Future+Electronics
footprint RES-1206-GEN
pins: 1, 2

## PE1206FRF470R12L
designator R?, comment 0.12Ω, 1W
RES 0.12 OHM 1% 1W 1206; Manufacturer: Yageo Group; Manufacturer Part Number: PE1206FRF470R12L; Value: 120mΩ; Temperature Coefficient: 100ppm/°C; Working Voltage: 346.4mV; Supplier: DigiKey; Supplier Part Number: 13-PE1206FRF470R12LCT-ND; RoHS: Compliant; Category: Chip SMD Resistors; Stock: 12757; Pricing: 1=0.44, 10=0.284, 25=0.2412, 50=0.2138, 100=0.1907, 250=0.16532, 500=0.14942, 1000=0.13589 (USD); Case/Package: 1206; Height: 640µm; Lifecycle Status: Production; Max Operating Temperature: 170°C; Min Operating Temperature: -55°C; Mounting Technology: Surface Mount; Number of Terminals: 2; Packaging: Tape & Reel; Power Dissipation: 1W; REACH SVHC: Yes; Tolerance: 1%; Width: 1.6mm; ComponentLink1URL: https://datasheet.octopart.com:443/PE1206FRF470R12L-Yageo-datasheet-182189516.pdf?src-supplier=IHS; ComponentLink1Description: https://datasheet.octopart.com:443/PE1206FRF470R12L-Yageo-datasheet-182189516.pdf?src-supplier=IHS; ComponentLink2URL: https://datasheet.octopart.com:443/PE1206FRF470R12L-Yageo-datasheet-152583588.pdf?src-supplier=Newark; ComponentLink2Description: https://datasheet.octopart.com:443/PE1206FRF470R12L-Yageo-datasheet-152583588.pdf?src-supplier=Newark; ComponentLink3URL: https://datasheet.octopart.com/PE1206FRF470R12L-Yageo-datasheet-86814871.pdf; ComponentLink3Description: https://datasheet.octopart.com/PE1206FRF470R12L-Yageo-datasheet-86814871.pdf; ComponentLink4URL: http://sigma.octopart.com:80/rohs_statement/Yageo-company-2.pdf?src-supplier=Compliance+Statements; ComponentLink4Description: http://sigma.octopart.com:80/rohs_statement/Yageo-company-2.pdf?src-supplier=Compliance+Statements; ComponentLink5URL: http://sigma.octopart.com:80/conflict_mineral_statement/Yageo-company-3.pdf?src-supplier=Compliance+Statements; ComponentLink5Description: http://sigma.octopart.com:80/conflict_mineral_statement/Yageo-company-3.pdf?src-supplier=Compliance+Statements
footprint RES-1206-GEN
pins: 1, 2

## PE1206FRF470R24L
designator R?, comment 0.24Ω, 1W
RES 0.24 OHM 1% 1W 1206; Manufacturer: Yageo Group; Manufacturer Part Number: PE1206FRF470R24L; Value: 240mΩ; Temperature Coefficient: 100ppm/°C; Working Voltage: 489.8mV; Supplier: DigiKey; Supplier Part Number: 13-PE1206FRF470R24LCT-ND; RoHS: Compliant; Category: Chip SMD Resistors; Stock: 4695; Pricing: 1=0.44, 10=0.284, 25=0.2412, 50=0.2138, 100=0.1907, 250=0.16532, 500=0.14942, 1000=0.13589 (USD); Case/Package: 1206; Height: 640µm; Lifecycle Status: Production; Max Operating Temperature: 170°C; Min Operating Temperature: -55°C; Mounting Technology: Surface Mount; Number of Terminals: 2; Packaging: Tape & Reel; Power Dissipation: 1W; REACH SVHC: Yes; Tolerance: 1%; Width: 1.6mm; ComponentLink1URL: https://datasheet.octopart.com:443/PE1206FRF470R24L-Yageo-datasheet-182189516.pdf?src-supplier=IHS; ComponentLink1Description: https://datasheet.octopart.com:443/PE1206FRF470R24L-Yageo-datasheet-182189516.pdf?src-supplier=IHS; ComponentLink2URL: https://datasheet.octopart.com/PE1206FRF470R24L-Yageo-datasheet-86814871.pdf; ComponentLink2Description: https://datasheet.octopart.com/PE1206FRF470R24L-Yageo-datasheet-86814871.pdf; ComponentLink3URL: http://sigma.octopart.com:80/conflict_mineral_statement/Yageo-company-3.pdf?src-supplier=Compliance+Statements; ComponentLink3Description: http://sigma.octopart.com:80/conflict_mineral_statement/Yageo-company-3.pdf?src-supplier=Compliance+Statements; ComponentLink4URL: http://sigma.octopart.com:80/rohs_statement/Yageo-company-2.pdf?src-supplier=Compliance+Statements; ComponentLink4Description: http://sigma.octopart.com:80/rohs_statement/Yageo-company-2.pdf?src-supplier=Compliance+Statements
footprint RES-1206-GEN
pins: 1, 2

## PE1206FRF470R36L
designator R?, comment 0.36Ω, 1W
RES 0.36 OHM 1% 1W 1206; Manufacturer: Yageo Group; Manufacturer Part Number: PE1206FRF470R36L; Value: 360mΩ; Temperature Coefficient: 100ppm/°C; Working Voltage: 600mV; Supplier: DigiKey; Supplier Part Number: 13-PE1206FRF470R36LCT-ND; RoHS: Compliant; Category: Chip SMD Resistors; Stock: 7172; Pricing: 1=0.44, 10=0.284, 25=0.2412, 50=0.2138, 100=0.1907, 250=0.16532, 500=0.14942, 1000=0.13589 (USD); Case/Package: 1206; Height: 640µm; Lifecycle Status: Production; Max Operating Temperature: 170°C; Min Operating Temperature: -55°C; Mounting Technology: Surface Mount; Number of Terminals: 2; Packaging: Tape & Reel; Power Dissipation: 1W; REACH SVHC: Yes; Tolerance: 1%; Width: 1.6mm; ComponentLink1URL: https://datasheet.octopart.com:443/PE1206FRF470R36L-Yageo-datasheet-182189516.pdf?src-supplier=IHS; ComponentLink1Description: https://datasheet.octopart.com:443/PE1206FRF470R36L-Yageo-datasheet-182189516.pdf?src-supplier=IHS; ComponentLink2URL: https://datasheet.octopart.com:443/PE1206FRF470R36L-Yageo-datasheet-175903529.pdf?src-supplier=Future+Electronics; ComponentLink2Description: https://datasheet.octopart.com:443/PE1206FRF470R36L-Yageo-datasheet-175903529.pdf?src-supplier=Future+Electronics; ComponentLink3URL: https://datasheet.octopart.com/PE1206FRF470R36L-Yageo-datasheet-86814871.pdf; ComponentLink3Description: https://datasheet.octopart.com/PE1206FRF470R36L-Yageo-datasheet-86814871.pdf; ComponentLink4URL: http://sigma.octopart.com:80/conflict_mineral_statement/Yageo-company-3.pdf?src-supplier=Compliance+Statements; ComponentLink4Description: http://sigma.octopart.com:80/conflict_mineral_statement/Yageo-company-3.pdf?src-supplier=Compliance+Statements; ComponentLink5URL: http://sigma.octopart.com:80/rohs_statement/Yageo-company-2.pdf?src-supplier=Compliance+Statements; ComponentLink5Description: http://sigma.octopart.com:80/rohs_statement/Yageo-company-2.pdf?src-supplier=Compliance+Statements
footprint RES-1206-GEN
pins: 1, 2

## PE2512FKE070R01L
designator R?, comment 0.01Ω, 1W
RES SMD 0.01 OHM 1% 1W 2512; Manufacturer: Yageo; Manufacturer Part Number: PE2512FKE070R01L; Supplier: Digikey; Supplier Part Number: YAG2151CT-ND; RoHS: Yes; Category: Chip SMD Resistors; Stock: 22482; Pricing: 1=0.6, 10=0.286, 25=0.238, 50=0.1908, 100=0.1652, 250=0.13972, 500=0.1275 (USD); ComponentLink1URL: https://datasheet.ciiva.com:443/pdfs/VipMasterIC/IC/YAGO/YAGO-S-A0007879655/YAGO-S-A0007879655-1.pdf?src-supplier=IHS+Markit; ComponentLink1Description: https://datasheet.ciiva.com:443/pdfs/VipMasterIC/IC/YAGO/YAGO-S-A0007879655/YAGO-S-A0007879655-1.pdf?src-supplier=IHS+Markit; ComponentLink2URL: http://www.mouser.com/ds/2/447/PYu-PE_521_RoHS_L_5-1077989.pdf?src-supplier=Mouser; ComponentLink2Description: http://www.mouser.com/ds/2/447/PYu-PE_521_RoHS_L_5-1077989.pdf?src-supplier=Mouser; ComponentLink3URL: https://datasheet.octopart.com/PE2512FKE070R01L-Yageo-datasheet-152583588.pdf?src-supplier=Farnell; ComponentLink3Description: https://datasheet.octopart.com/PE2512FKE070R01L-Yageo-datasheet-152583588.pdf?src-supplier=Farnell; ComponentLink4URL: https://www.yageo.com/upload/media/product/productsearch/datasheet/rchip/PYu-PE_521_RoHS_L_7.pdf?src-supplier=Digikey; ComponentLink4Description: https://www.yageo.com/upload/media/product/productsearch/datasheet/rchip/PYu-PE_521_RoHS_L_7.pdf?src-supplier=Digikey; ComponentLink5URL: http://www.yageo.com/NewPortal/yageodocoutput?fileName=/pdf/R-Chip/PYu-PE_521_RoHS_L_5.pdf&src-supplier=Digikey; ComponentLink5Description: http://www.yageo.com/NewPortal/yageodocoutput?fileName=/pdf/R-Chip/PYu-PE_521_RoHS_L_5.pdf&src-supplier=Digikey; ComponentLink6URL: https://datasheet.octopart.com/PE2512FKE070R01L-Yageo-datasheet-152583588.pdf?src-supplier=Newark; ComponentLink6Description: https://datasheet.octopart.com/PE2512FKE070R01L-Yageo-datasheet-152583588.pdf?src-supplier=Newark; ComponentLink7URL: https://datasheet.octopart.com/PE2512FKE070R01L-Yageo-datasheet-130255203.pdf?src-supplier=Future+Electronics; ComponentLink7Description: https://datasheet.octopart.com/PE2512FKE070R01L-Yageo-datasheet-130255203.pdf?src-supplier=Future+Electronics
footprint RES-2512-GEN
pins: 1, 2

## PE2512FKE070R006L
designator R?, comment 0.006Ω, 1W
RES SMD 0.006 OHM 1% 1W 2512; Manufacturer: Yageo; Manufacturer Part Number: PE2512FKE070R006L; Value: 6mR; Temperature Coefficient (ppm/Cel): -50,50; Package Height: 0.64mm; Package Length: 6.35mm; Package Width: 3.18mm; Supplier: Digikey; Supplier Part Number: YAG2146CT-ND; RoHS: Yes; Category: Chip SMD Resistors; Stock: 11668; Pricing: 1=0.69, 10=0.295, 25=0.252, 50=0.209, 100=0.1902, 250=0.17136, 500=0.15504 (USD); Pins: 2; Case/Package: 2512; Terminal Finish: Nickel; Min Operating Temperature: -55°C; Max Operating Temperature: 170°C; Tolerance: 1%; JESD-609 Code: e3; Resistor Type: FIXED RESISTOR; Construction: Chip; Packaging: Tape and Reel; Power: 1W; Series: PE-L; Technology: METAL FOIL; Reach SVHC Compliant: Yes; RoHS Compliant: Yes; ComponentLink1URL: https://datasheet.ciiva.com:443/pdfs/VipMasterIC/IC/YAGO/YAGO-S-A0000784396/YAGO-S-A0000784396-1.pdf?src-supplier=IHS+Markit; ComponentLink1Description: https://datasheet.ciiva.com:443/pdfs/VipMasterIC/IC/YAGO/YAGO-S-A0000784396/YAGO-S-A0000784396-1.pdf?src-supplier=IHS+Markit; ComponentLink2URL: http://www.mouser.com/ds/2/447/PYu-PE_521_RoHS_L_1-536447.pdf?src-supplier=Mouser; ComponentLink2Description: http://www.mouser.com/ds/2/447/PYu-PE_521_RoHS_L_1-536447.pdf?src-supplier=Mouser; ComponentLink3URL: https://datasheet.octopart.com/PE2512FKE070R006L-Yageo-datasheet-152583588.pdf?src-supplier=Farnell; ComponentLink3Description: https://datasheet.octopart.com/PE2512FKE070R006L-Yageo-datasheet-152583588.pdf?src-supplier=Farnell; ComponentLink4URL: https://www.yageo.com/upload/media/product/productsearch/datasheet/rchip/PYu-PE_521_RoHS_L_7.pdf?src-supplier=Digikey; ComponentLink4Description: https://www.yageo.com/upload/media/product/productsearch/datasheet/rchip/PYu-PE_521_RoHS_L_7.pdf?src-supplier=Digikey; ComponentLink5URL: http://www.yageo.com/NewPortal/yageodocoutput?fileName=/pdf/R-Chip/PYu-PE_521_RoHS_L_5.pdf&src-supplier=Digikey; ComponentLink5Description: http://www.yageo.com/NewPortal/yageodocoutput?fileName=/pdf/R-Chip/PYu-PE_521_RoHS_L_5.pdf&src-supplier=Digikey; ComponentLink6URL: https://datasheet.octopart.com/PE2512FKE070R006L-Yageo-datasheet-152583588.pdf?src-supplier=Newark; ComponentLink6Description: https://datasheet.octopart.com/PE2512FKE070R006L-Yageo-datasheet-152583588.pdf?src-supplier=Newark; ComponentLink7URL: https://datasheet.octopart.com/PE2512FKE070R006L-Yageo-datasheet-137700560.pdf?src-supplier=Future+Electronics; ComponentLink7Description: https://datasheet.octopart.com/PE2512FKE070R006L-Yageo-datasheet-137700560.pdf?src-supplier=Future+Electronics
footprint RES-2512-GEN
pins: 1, 2